# EAGLE library part MT29F4G08ABADAH4 (library circuit_tree)
IC
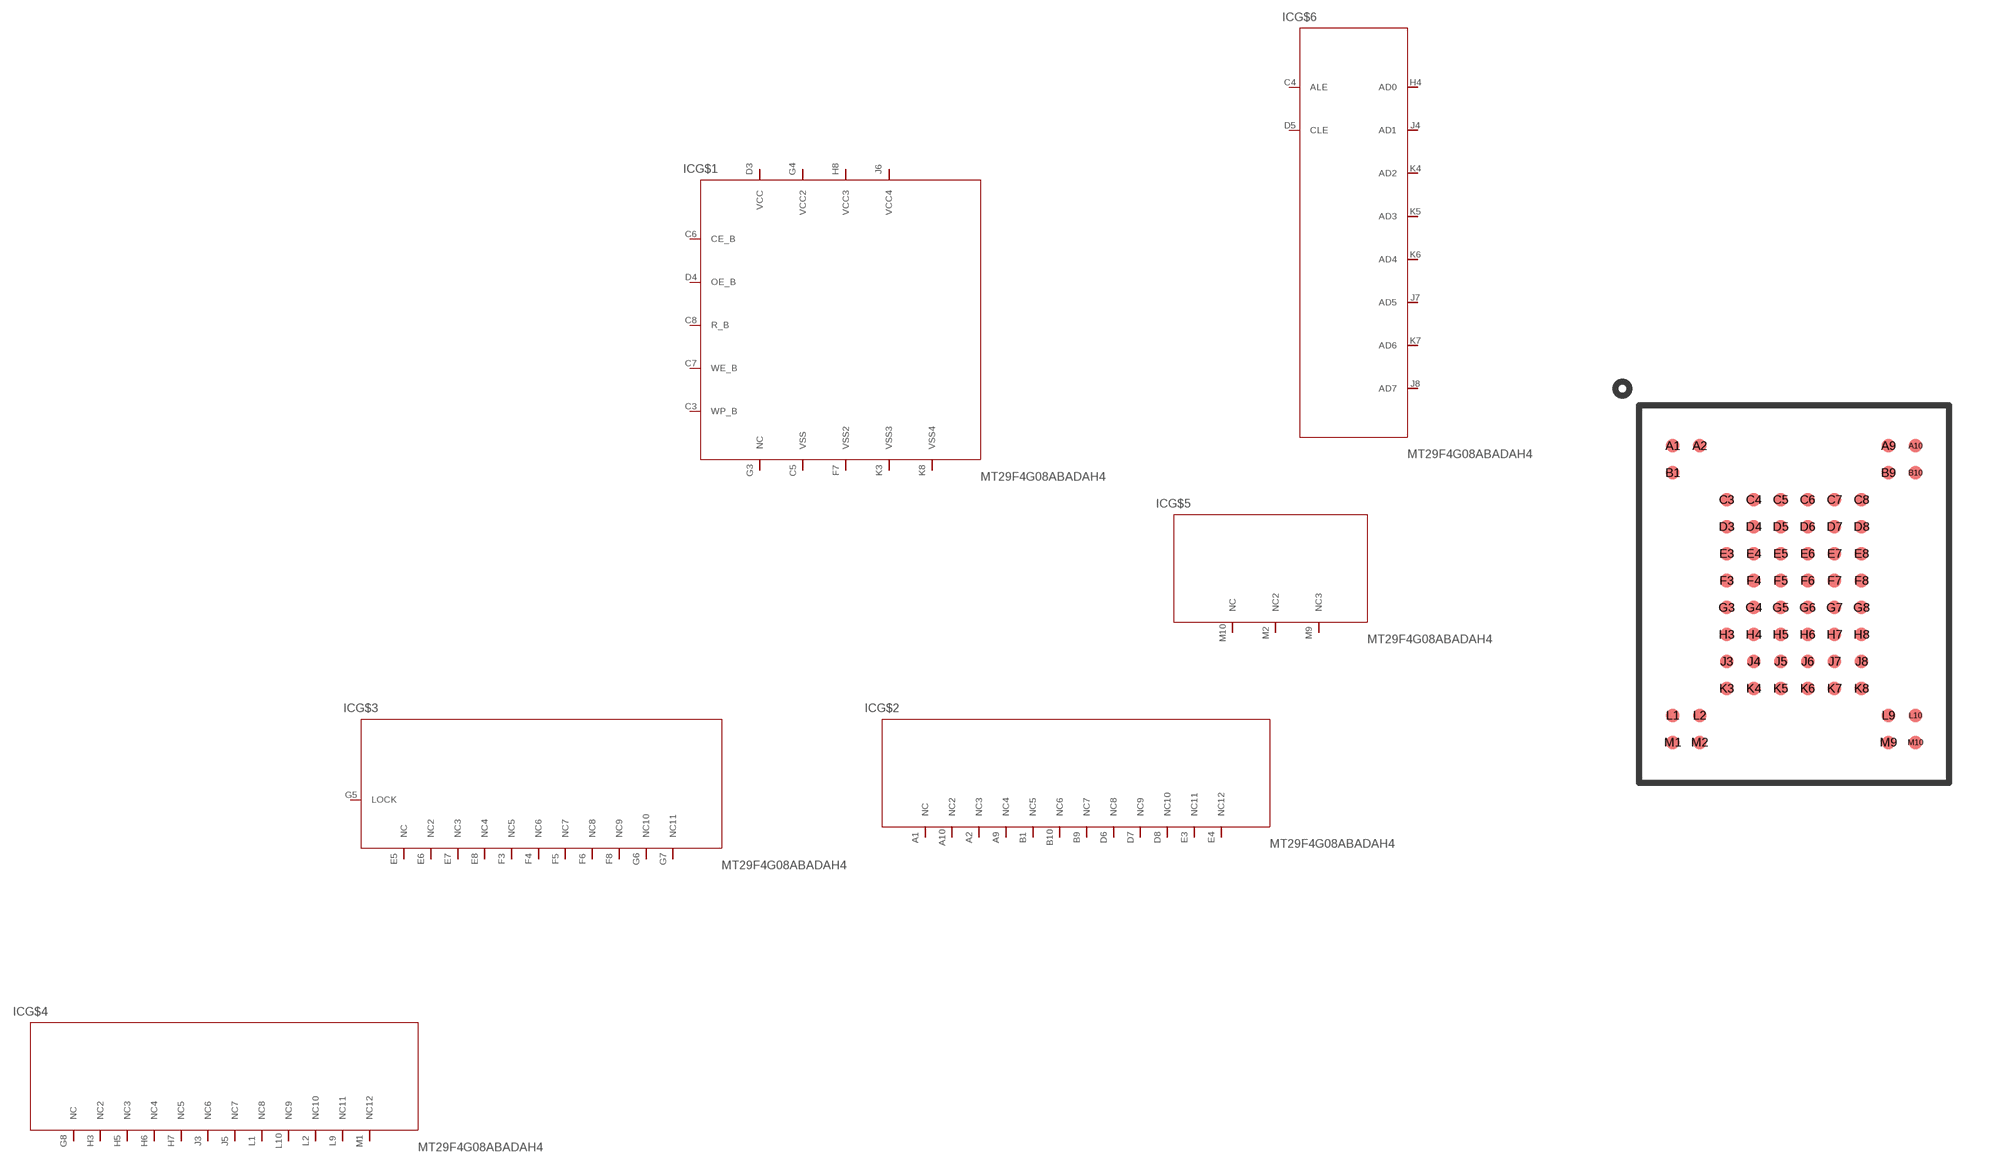
[diagram p8: symbol with the pads of VFBGA-63; footprint VFBGA-63]

Designator prefix IC; gates G$1=MT29F4G08ABADAH4 G$2=MT29F4G08ABADAH42 G$3=MT29F4G08ABADAH43 G$4=MT29F4G08ABADAH44 G$5=MT29F4G08ABADAH45 G$6=MT29F4G08ABADAH46

## MT29F4G08ABADAH4  [VFBGA-63]
A1  G$2:NC  pas
A2  G$2:NC3  pas
A9  G$2:NC4  pas
A10  G$2:NC2  pas
B1  G$2:NC5  pas
B9  G$2:NC7  pas
B10  G$2:NC6  pas
C3  G$1:WP_B  pas
C4  G$6:ALE  pas
C5  G$1:VSS  pas
C6  G$1:CE_B  pas
C7  G$1:WE_B  pas
C8  G$1:R_B  pas
D3  G$1:VCC  pas
D4  G$1:OE_B  pas
D5  G$6:CLE  pas
D6  G$2:NC8  pas
D7  G$2:NC9  pas
D8  G$2:NC10  pas
E3  G$2:NC11  pas
E4  G$2:NC12  pas
E5  G$3:NC  pas
E6  G$3:NC2  pas
E7  G$3:NC3  pas
E8  G$3:NC4  pas
F3  G$3:NC5  pas
F4  G$3:NC6  pas
F5  G$3:NC7  pas
F6  G$3:NC8  pas
F7  G$1:VSS2  pas
F8  G$3:NC9  pas
G3  G$1:NC  pas
G4  G$1:VCC2  pas
G5  G$3:LOCK  pas
G6  G$3:NC10  pas
G7  G$3:NC11  pas
G8  G$4:NC  pas
H3  G$4:NC2  pas
H4  G$6:AD0  pas
H5  G$4:NC3  pas
H6  G$4:NC4  pas
H7  G$4:NC5  pas
H8  G$1:VCC3  pas
J3  G$4:NC6  pas
J4  G$6:AD1  pas
J5  G$4:NC7  pas
J6  G$1:VCC4  pas
J7  G$6:AD5  pas
J8  G$6:AD7  pas
K3  G$1:VSS3  pas
K4  G$6:AD2  pas
K5  G$6:AD3  pas
K6  G$6:AD4  pas
K7  G$6:AD6  pas
K8  G$1:VSS4  pas
L1  G$4:NC8  pas
L2  G$4:NC10  pas
L9  G$4:NC11  pas
L10  G$4:NC9  pas
M1  G$4:NC12  pas
M2  G$5:NC2  pas
M9  G$5:NC3  pas
M10  G$5:NC  pas

## Footprint VFBGA-63 (pad centres in mm)
smd 0.4 x 0.4: A1 -3.6,4.4; A2 -2.8,4.4; A9 2.8,4.4; A10 3.6,4.4; B1 -3.6,3.6; B9 2.8,3.6; B10 3.6,3.6; C3 -2,2.8; C4 -1.2,2.8; C5 -0.4,2.8; C6 0.4,2.8; C7 1.2,2.8; C8 2,2.8; D3 -2,2; D4 -1.2,2; D5 -0.4,2; D6 0.4,2; D7 1.2,2; D8 2,2; E3 -2,1.2; E4 -1.2,1.2; E5 -0.4,1.2; E6 0.4,1.2; E7 1.2,1.2; E8 2,1.2; F3 -2,0.4; F4 -1.2,0.4; F5 -0.4,0.4; F6 0.4,0.4; F7 1.2,0.4; F8 2,0.4; G3 -2,-0.4; G4 -1.2,-0.4; G5 -0.4,-0.4; G6 0.4,-0.4; G7 1.2,-0.4; G8 2,-0.4; H3 -2,-1.2; H4 -1.2,-1.2; H5 -0.4,-1.2; H6 0.4,-1.2; H7 1.2,-1.2; H8 2,-1.2; J3 -2,-2; J4 -1.2,-2; J5 -0.4,-2; J6 0.4,-2; J7 1.2,-2; J8 2,-2; K3 -2,-2.8; K4 -1.2,-2.8; K5 -0.4,-2.8; K6 0.4,-2.8; K7 1.2,-2.8; K8 2,-2.8; L1 -3.6,-3.6; L2 -2.8,-3.6; L9 2.8,-3.6; L10 3.6,-3.6; M1 -3.6,-4.4; M2 -2.8,-4.4; M9 2.8,-4.4; M10 3.6,-4.4